# Altium footprint library WL-TIRC.PcbLib: 2 footprints
Each footprint in its own frame and in the unit in brackets; x right, y up, seen from the top. Pads: shape width x height; smd on the part's side, far side on the other; paste and mask are expansions set on the pad; w line width, h text height; cw(c..) or ccw(c..) is an arc to the next point about the centre after c.
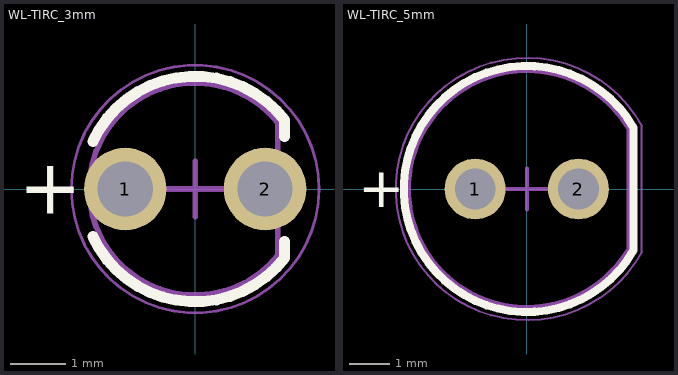
[diagram p0: the footprints below, top view; thin cyan lines are the x and y axes]

## WL-TIRC_3mm [mm]
height 5.3
pads (2):
  round 1.5 hole 1: 1(-1.27,0) 2(1.27,0)
Top Overlay:
  lines w0.2: -1.858,-0.867 ccw(c0,0) 1.625,-1.25 1.625,-0.95 ; -1.858,0.867 cw(c0,0) 1.625,1.25 1.625,0.95
  text "+" at -3.2,-0.45 h1
Top Assembly:
  lines w0.1: 1.5,1.205 1.5,-1.207 cw(c0,0) 1.501,1.205
Top Designator:
  text ".Designator" at -3.647,-0.357 h1
Top 3D Body:
  lines w0.1: 1.5,1.205 1.5,-1.207 cw(c0,0) 1.501,1.205
Top Courtyard:
  circle w0.05: c0,0 r2.25
Top Component Center:
  lines w0.1: -0.5,0 0.5,0 ; 0,-0.5 0,0.5
3D body "STP_WL-TIRC_3mm (rev1).stp": height 3.8, standoff -26.4, extent -1.925,-1.925 1.639,1.925

## WL-TIRC_5mm [mm]
height 8.7
pads (2):
  round 1.5 hole 1: 1(-1.27,0) 2(1.27,0)
Top Overlay:
  lines w0.2: 2.626,-1.502 cw(c0,0) 2.625,1.503 2.625,-1.502
  text "+" at -4.15,-0.45 h1
Top Assembly:
  lines w0.1: 2.5,-1.47 cw(c0,0) 2.502,1.467 ; 2.5,-1.47 2.5,1.467
Top Designator:
  text ".Designator" at -3.647,-0.357 h1
Top 3D Body:
  lines w0.1: 2.5,-1.47 cw(c0,0) 2.502,1.467 ; 2.5,-1.47 2.5,1.467
Top Courtyard:
  lines w0.05: 2.825,-1.554 2.825,1.554 ; 2.826,-1.554 cw(c0,0) 2.826,1.554
Top Component Center:
  lines w0.1: -0.5,0 0.5,0 ; 0,-0.5 0,0.5
3D body "154005xxF3590.stp": height 6.2, standoff -25, extent -2.9,-2.896 2.5,2.897